# Altium footprint library SMA.PcbLib: 1 footprints
Each footprint in its own frame and in the unit in brackets; x right, y up, seen from the top. Pads: shape width x height; smd on the part's side, far side on the other; paste and mask are expansions set on the pad; w line width, h text height; cw(c..) or ccw(c..) is an arc to the next point about the centre after c.
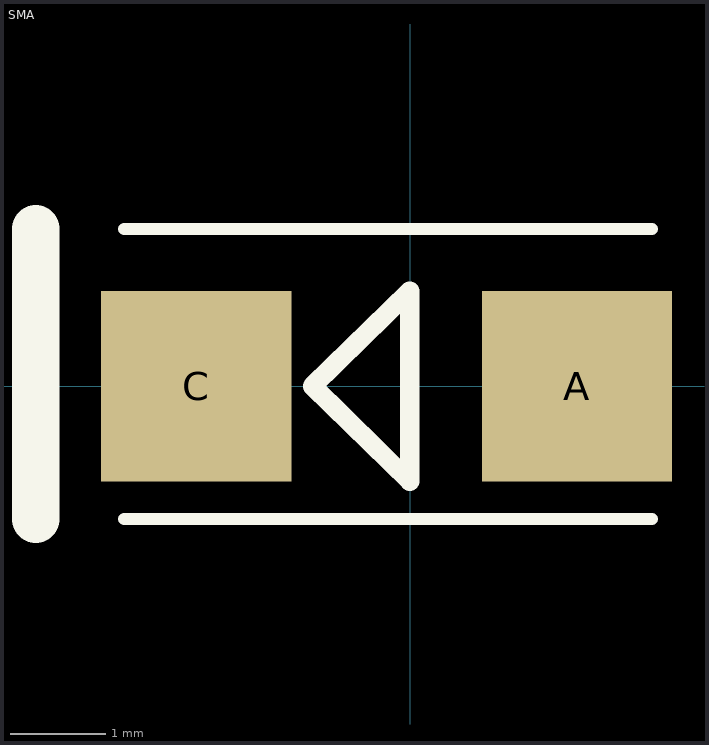
[diagram p0: the footprint, top view; thin cyan lines are the x and y axes]

## SMA [mm]
pads (2):
  rect 2x2 smd: A(1.75,0) C(-2.25,0)
Top Overlay:
  lines w0.127: -3.008,-1.397 2.54,-1.397 ; -3.008,1.651 2.54,1.651
  lines w0.203: -1.03,0 -0.007,1 -0.007,-1 -1.03,0
  lines w0.5: -3.937,-1.397 -3.937,1.651
3D body "step_temp.STEP": height 2.5, standoff 0, extent -3.95,-2.9 3.95,2.9